# Altium schematic symbol library XS_4P.Schlib: 1 symbol
Pins are listed as number, name and electrical type; pins without a type are passive.

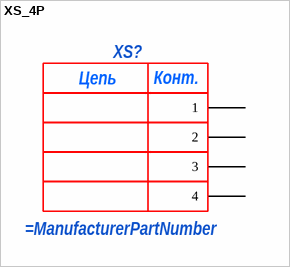
[diagram p0: symbol XS_4P]

## XS_4P
designator XS?
pins: 1, 2, 3, 4
text: Цепь; Конт.